# Altium footprint library ATGM336H.PcbLib: 2 footprints
Each footprint in its own frame and in the unit in brackets; x right, y up, seen from the top. Pads: shape width x height; smd on the part's side, far side on the other; paste and mask are expansions set on the pad; w line width, h text height; cw(c..) or ccw(c..) is an arc to the next point about the centre after c.
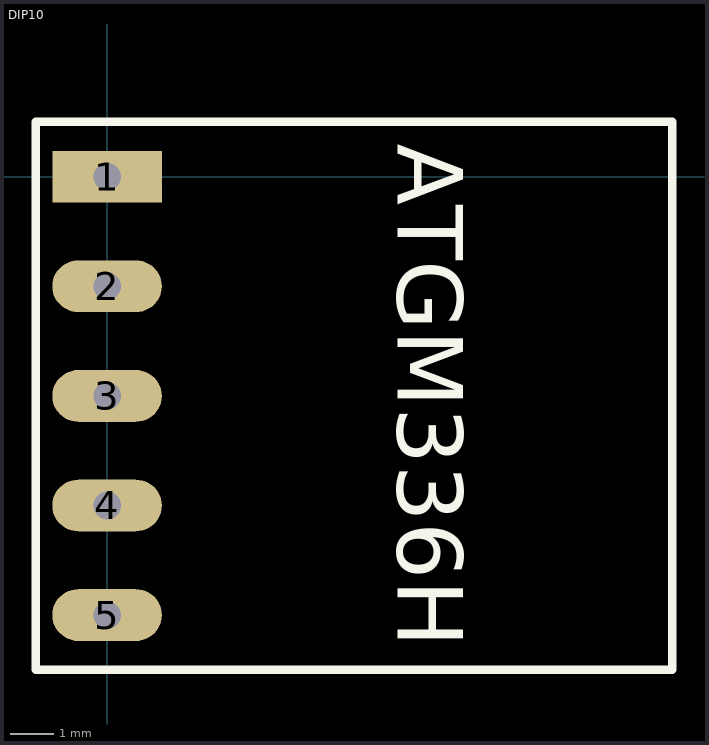
[diagram p0: the footprints below, top view; thin cyan lines are the x and y axes]

## DIP10 [mm]
pads (5):
  rect 2.54x1.2 / inner rect 2.5x1.2 / far side rect 2.54x1.2 hole 0.64: 1(0,0)
  oval 2.54x1.2 / inner oval 2.5x1.2 / far side oval 2.54x1.2 hole 0.64: 2(0,-2.54) 3(0,-5.08) 4(0,-7.62) 5(0,-10.16)
Top Overlay:
  lines w0.2: 13.081,1.27 -1.651,1.27 -1.651,-11.43 13.095,-11.43 13.095,1.27
  text "ATGM336H" at 6.731,0.76 h1.52

## PCBComponent_1 [mil]